# Altium footprint library SamacSys.PcbLib: 35 footprints (part 3 of 3)
Each footprint in its own frame and in the unit in brackets; x right, y up, seen from the top. Pads: shape width x height; smd on the part's side, far side on the other; paste and mask are expansions set on the pad; w line width, h text height; cw(c..) or ccw(c..) is an arc to the next point about the centre after c.
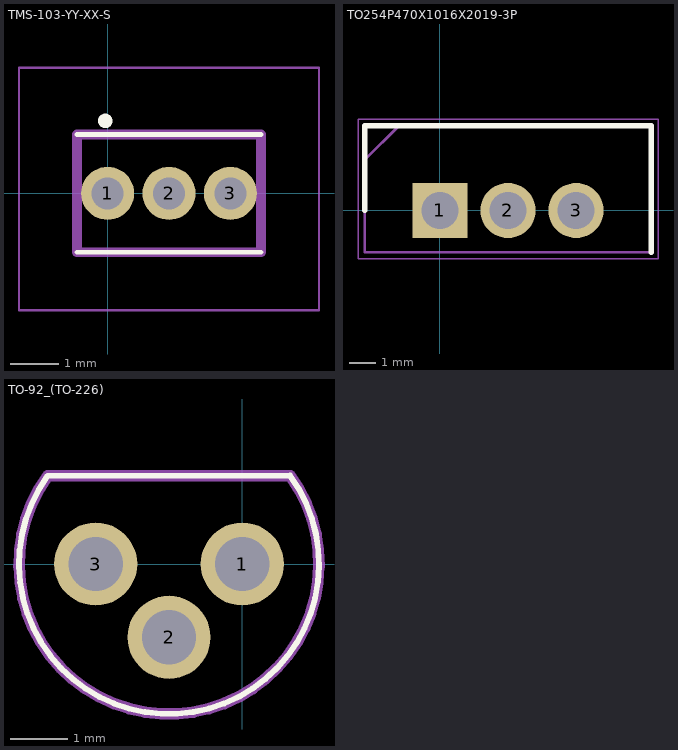
[diagram p2: the footprints below, top view; thin cyan lines are the x and y axes]

## TMS-103-YY-XX-S [mm]
pads (3):
  round 1.1 hole 0.66: 1(0,0) 2(1.27,0) 3(2.54,0)
Top Overlay:
  circle w0.2: c-0.05,1.5 r0.05
  lines w0.1: -0.635,-1.219 3.175,-1.219 ; -0.635,1.219 3.175,1.219
Mechanical 13:
  lines w0.2: -0.635,-1.219 -0.635,1.219 3.175,1.219 3.175,-1.219 -0.635,-1.219
Mechanical 15:
  lines w0.05: -1.835,-2.419 -1.835,2.6 4.375,2.6 4.375,-2.419 -1.835,-2.419
3D body "TMS-103-54-G-S.stp": height 8.13, standoff 0, extent -0.635,-1.129 3.175,1.309

## TO254P470X1016X2019-3P [mm]
pads (3):
  rect 2.055x2.055 hole 1.37: 1(0,0)
  round 2.055 hole 1.37: 2(2.535,0) 3(5.07,0)
Top Overlay:
  lines w0.2: -2.8,0 -2.8,3.15 7.87,3.15 7.87,-1.55
Mechanical 13:
  lines w0.1: -2.8,1.882 -1.532,3.15 ; -2.8,-1.55 -2.8,3.15 7.87,3.15 7.87,-1.55 -2.8,-1.55
Mechanical 15:
  lines w0.05: -3.05,-1.8 -3.05,3.4 8.12,3.4 8.12,-1.8 -3.05,-1.8
3D body "LM7812ACT.stp": height 18.54, standoff -17.53, extent -2.545,-1.55 7.615,3.15

## TO-92_(TO-226) [mm]
pads (3):
  round 1.44 hole 0.94: 1(0,0) 2(-1.27,-1.27) 3(-2.54,0)
Top Overlay:
  lines w0.1: -3.373,1.528 ccw(c-1.27,0) 0.831,1.532 ; -3.372,1.53 0.832,1.53
Mechanical 13:
  lines w0.2: -3.373,1.528 ccw(c-1.27,0) 0.831,1.532 ; -3.372,1.53 0.832,1.53
3D body "BC547BG.stp": height 8.33, standoff -12.62, extent -3.869,-2.51 1.329,1.68